# Altium schematic symbol library Custom Schematic Lib.SCHLIB: 16 symbols
Pins are listed as number, name and electrical type; pins without a type are passive.

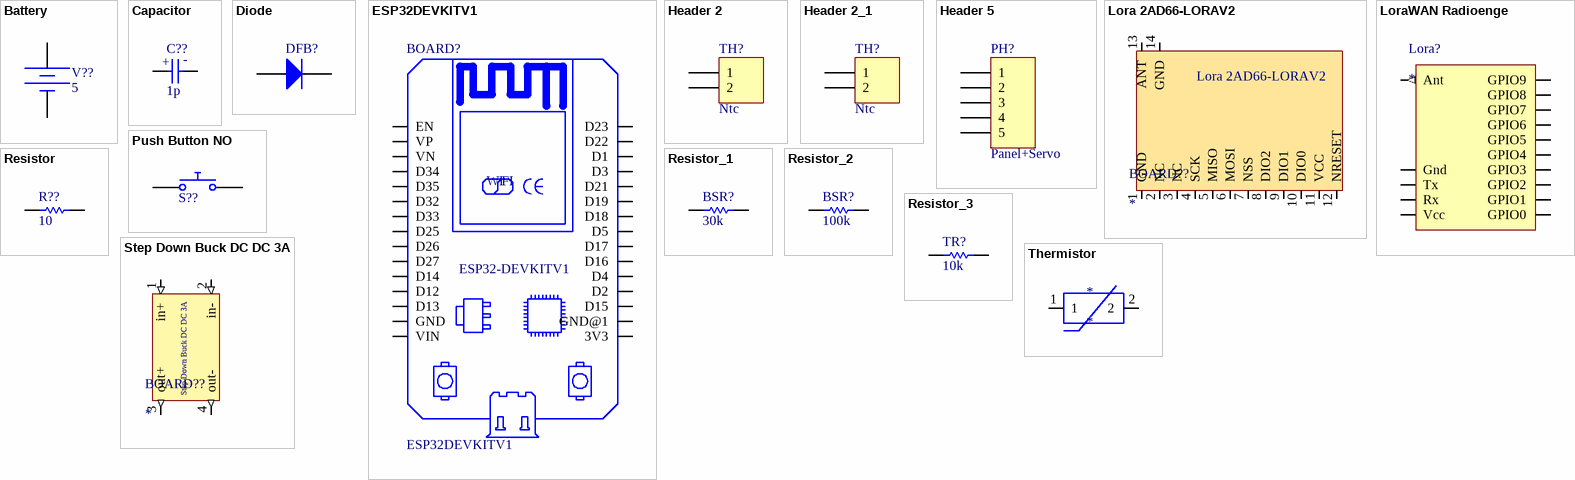
[diagram p0: symbols Battery to Thermistor]

## Battery
designator V??, comment DC Magnitude: 5  (hidden comment: Constant Voltage Source)
SimulationGenericComponent: True
simulation model Vconst (Voltage and Curent Souces)
footprint HDR1X2
pins: 1 -, 2 +

## Capacitor
designator C??  value 1p  (hidden comment: Capacitor)
SimulationGenericComponent: True
simulation model C_Capacitor_Default (CAP)
footprint CAP_EEEFK1C470AL
pins: 1, 2
text: +; -

## Diode
designator DFB?
Diode; AF: 1; BV: 0; BV_MAX: 1e99; EG: 1.11; FC: 0.5; IBV: 0.001; ISR: 1e-14; MJSW: 0.33; NTUN: 30; TNOM: 27; XTI: 3; SimulationGenericComponent: True; CJO: 0; CJP: 0; CTA: 0; CTP: 0; FCS: 0.5; FV_MAX: 1e99; IKF: 0; IKR: 0; JSW: 0; JTUN: 0; JTUNSW: 0; KEG: 1; KF: 0; LEVEL: 1; N: 1; NBV: 1; NR: 1; NS: 1; PHP: 1; RS: 0; TCV: 0; TLEV: 0; TLEVC: 0; TM1: 0; TM2: 0; TPB: 0; TPHP: 0; TRS: 0; TRS2: 0; TT: 0; TTT1: 0; TTT2: 0; VJ: 1; XTITUN: 3; IS: 1e-14
simulation model diode (Diodes)
footprint Smd Thermistor Terminal
pins: 1 A, 2 K

## ESP32DEVKITV1
designator BOARD?
Dual core, Wi-Fi: 2.4 GHz up to 150 Mbits/s,BLE (Bluetooth Low Energy) and legacy Bluetooth, 32 bits, Up to 240 MHz; MF: Do it; SnapEDA_Link: https://www.snapeda.com/parts/ESP32%20DEVKIT%20V1/Do%20it/view-part/5659245/?ref=snap; Price: None; MP: ESP32 DEVKIT V1; Check_prices: https://www.snapeda.com/parts/ESP32%20DEVKIT%20V1/Do%20it/view-part/5659245/?ref=eda; Availability: Unavailable; Value: *; Package: Package
footprint ESP32-DEVKITV1
pins: 3V3 (io), D1 (io), D2 (io), D3 (io), D4 (io), D5 (io), D12 (io), D13 (io), D14 (io), D15 (io), D16 (io), D17 (io), D18 (io), D19 (io), D21 (io), D22 (io), D23 (io), D25 (io), D26 (io), D27 (io), D32 (io), D33 (io), D34 (io), D35 (io), EN (io), GND (io), GND@1 (io), VIN (io), VN (io), VP (io)
text: WI; FI; ESP32-DEVKITV1

## Header 2
designator TH?, comment Ntc
Header, 2-Pin; LatestRevisionDate: 17-Jul-2002; LatestRevisionNote: Re-released for DXP Platform.; Publisher: Altium Limited
footprint HDR1X2 (Connector; Header; 2 Position)
signal-integrity model Connector
pins: 1, 2

## Header 2_1
designator TH?, comment Ntc
Header, 2-Pin; LatestRevisionDate: 17-Jul-2002; LatestRevisionNote: Re-released for DXP Platform.; Publisher: Altium Limited
signal-integrity model Connector
footprint Smd Resistor
pins: 1, 2

## Header 5
designator PH?, comment Panel+Servo
Header, 5-Pin; LatestRevisionDate: 17-Jul-2002; LatestRevisionNote: Re-released for DXP Platform.; Publisher: Altium Limited
footprint HDR1X5 (Connector; Header; 5 Position)
signal-integrity model Connector
pins: 1, 2, 3, 4, 5

## Lora 2AD66-LORAV2
designator BOARD??
footprint Lora 2AD66-LORAV2 (Modulo 2AD66 loraWAN fabricado por G-NiceRF)
pins: 1 GND (power), 2 NC, 3 NC, 4 SCK (io), 5 MISO (io), 6 MOSI (io), 7 NSS (in), 8 DIO2 (io), 9 DIO1 (io), 10 DIO0 (io), 11 VCC (power), 12 NRESET (in), 13 ANT (out), 14 GND (power)

## LoraWAN Radioenge
designator Lora?
footprint LORAMESH (Kit LoraMesh)
pins: 2 Rx (io), 3 Tx (io), 6 GPIO0 (io), 7 GPIO1 (io), 9 GPIO2 (io), 10 GPIO3 (io), 11 GPIO4 (io), 12 GPIO5 (io), 13 GPIO6 (io), 14 GPIO7 (io), 15 GPIO8 (io), 16 GPIO9 (io), 18 Ant (out), Gnd (power), Vcc (power)

## Push Button NO
designator S??, comment Push Button Normally Opened  (value not drawn)
closed: 0; Rclosed: 1m; Ropen: 1Meg; SimulationGenericComponent: True
simulation model PUSH_BUTTON_NO (Switches & Buttons)
footprint Smd Push Button (Extended Legs) (Footprint for smd push button with extended legs)
pins: 1, 2

## Resistor
designator R??  value 10  (hidden comment: Resistor)
TC1: 0; SimulationGenericComponent: True; TC2: 0
simulation model R_Resistor_Default (Model Description)
footprint 1/4W SMD Resistor (Footprint to use standard THC 1/4W Resistor)
pins: 1, 2

## Resistor_1
designator BSR?, comment value 30k  (hidden comment: Resistor)
TC1: 0; SimulationGenericComponent: True; TC2: 0
simulation model R_Resistor_Default (Model Description)
footprint Smd Resistor
pins: 1, 2

## Resistor_2
designator BSR?, comment value 100k  (hidden comment: Resistor)
TC1: 0; SimulationGenericComponent: True; TC2: 0
simulation model R_Resistor_Default (Model Description)
footprint Smd Resistor
pins: 1, 2

## Resistor_3
designator TR?, comment value 10k  (hidden comment: Smd Resistor 10k)
Resistor; TC1: 0; SimulationGenericComponent: True; TC2: 0
simulation model R_Resistor_Default (Model Description)
footprint Smd Resistor
pins: 1, 2

## Step Down Buck DC DC 3A
designator BOARD??
footprint Step Down Buck DC DC 3A (Buck converter DC-DC 3A max)
pins: 1 in+ (in), 2 in- (in), 3 out+ (out), 4 out- (out)

## Thermistor
designator *
footprint Smd Thermistor Terminal
pins: 1 (power), 2 (power)